# Altium schematic symbol library 基础元器件.SchLib: 14 symbols
Pins are listed as number, name and electrical type; pins without a type are passive.

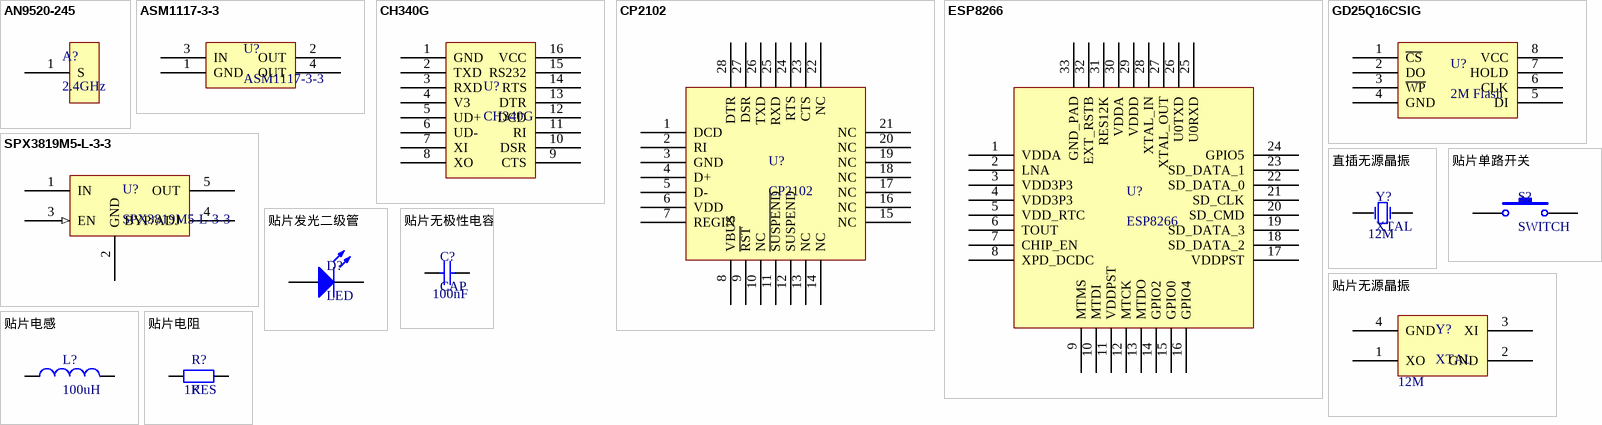
[diagram p0: symbols AN9520-245 to 贴片电阻]

## AN9520-245
designator A?, comment 2.4GHz
贴片2.4G陶瓷天线
footprint AN9520-245 (贴片 2.4GHz 陶瓷天线 RainSun 9.5mm×2.0mm)
pins: 1 S

## ASM1117-3-3
designator U?
贴片5V转3.3V芯片
footprint SOT223
pins: 1 GND, 2 OUT, 3 IN, 4 OUT

## CH340G
designator U?
贴片USB转TTL
footprint SOP16
pins: 1 GND (power) "接地", 2 TXD, 3 RXD, 4 V3 (power) "3.3V输出", 5 UD+, 6 UD-, 7 XI, 8 XO, 9 CTS, 10 DSR, 11 RI, 12 DCD, 13 DTR, 14 RTS, 15 RS232, 16 VCC (power)

## CP2102
designator U?
贴片USB转TTL
footprint MLP28
pins: 1 DCD, 2 RI, 3 GND, 4 D+, 5 D-, 6 VDD, 7 REGIN, 8 VBUS, 9 ~{RST}, 10 NC, 11 ~{SUSPEND}, 12 SUSPEND, 13 NC, 14 NC, 15 NC, 16 NC, 17 NC, 18 NC, 19 NC, 20 NC, 21 NC, 22 NC, 23 CTS, 24 RTS, 25 RXD, 26 TXD, 27 DSR, 28 DTR

## ESP8266
designator U?
ESP8266无线WiFi芯片
footprint QFN32L
pins: 1 VDDA, 2 LNA, 3 VDD3P3, 4 VDD3P3, 5 VDD_RTC, 6 TOUT, 7 CHIP_EN, 8 XPD_DCDC, 9 MTMS, 10 MTDI, 11 VDDPST, 12 MTCK, 13 MTDO, 14 GPIO2, 15 GPIO0, 16 GPIO4, 17 VDDPST, 18 SD_DATA_2, 19 SD_DATA_3, 20 SD_CMD, 21 SD_CLK, 22 SD_DATA_0, 23 SD_DATA_1, 24 GPIO5, 25 U0RXD, 26 U0TXD, 27 XTAL_OUT, 28 XTAL_IN, 29 VDDD, 30 VDDA, 31 RES12K, 32 EXT_RSTB, 33 GND_PAD

## GD25Q16CSIG
designator U?, comment 2M Flash
贴片2M存储Flash芯片
footprint SOIC8
pins: 1 ~{CS}, 2 DO, 3 ~{WP}, 4 GND, 5 DI, 6 CLK, 7 HOLD, 8 VCC (power)

## SPX3819M5-L-3-3
designator U?
贴片5V转3.3V芯片
footprint SOT25-5
pins: 1 IN (power), 2 GND (power), 3 EN (in), 4 BYP/ADJ, 5 OUT (power)

## 直插无源晶振
designator Y?, comment XTAL  value 12M
直插无源晶振
footprint HC-49S (HC-49S 12M 无源晶振)
pins: 1 OSC1, 2 OSC2

## 贴片单路开关
designator S?, comment SWITCH
贴片单路开关
footprint SWITCH-6-6-5 (4Pin 贴片 轻触开关)
pins: 1, 2

## 贴片发光二级管
designator D?, comment LED
贴片发光二级管
footprint LED0603 (0603 贴片 发光二极管 1.6mm×0.8mm)
footprint LED0402 (0402 贴片 发光二级管 1.0mm×0.5mm)
pins: 1 A, 2 K

## 贴片无极性电容
designator C?, comment CAP  value 100nF
贴片无极性电容
footprint C0402 (0402 贴片电容 无极性 带丝印)
footprint C0603 (0603 贴片电容 无极性 带丝印)
footprint C0805 (0805 贴片电容 无极性 带丝印)
pins: 1, 2

## 贴片无源晶振
designator Y?, comment XTAL  value 12M
贴片无源晶振
footprint XTAL-3225 (3225 贴片 无源晶振 12M 4Pin)
footprint XTAL-2520
pins: 1 XO, 2 GND, 3 XI, 4 GND

## 贴片电感
designator L?, comment 100uH
贴片电感
footprint L0402 (0402 贴片 电感 无极性 带丝印)
pins: 1, 2

## 贴片电阻
designator R?, comment RES  value 1K
贴片电阻
footprint R0603 (0603 贴片 电阻 带丝印)
footprint R0805 (0805 贴片 电阻 带丝印)
footprint R1206 (1206 贴片 电阻 带丝印)
footprint R0402 (0402 贴片 电阻 带丝印)
pins: 1, 2